# Altium footprint library PQFN-8-5x6.PcbLib: 1 footprints
Each footprint in its own frame and in the unit in brackets; x right, y up, seen from the top. Pads: shape width x height; smd on the part's side, far side on the other; paste and mask are expansions set on the pad; w line width, h text height; cw(c..) or ccw(c..) is an arc to the next point about the centre after c.
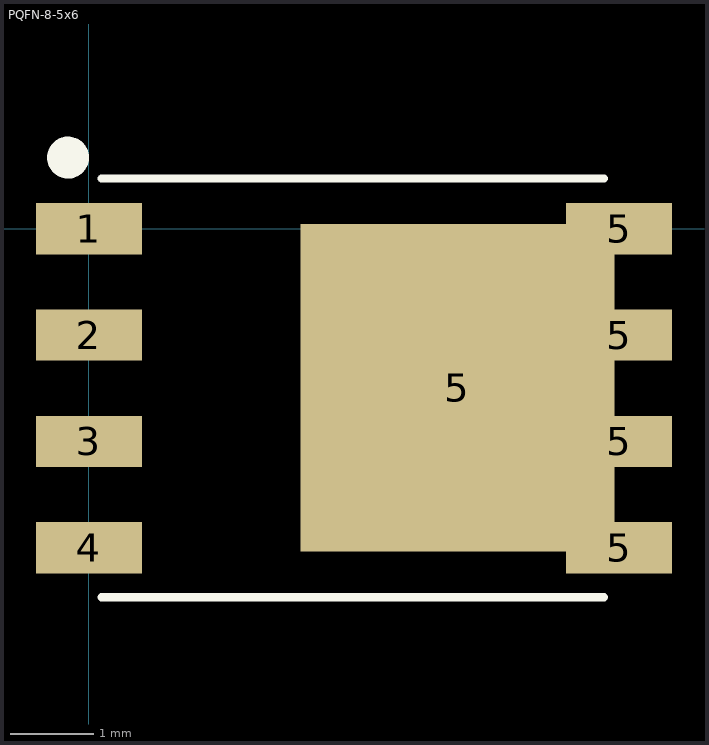
[diagram p0: the footprint, top view; thin cyan lines are the x and y axes]

## PQFN-8-5x6 [mm]
pads (9):
  rect 1.27x0.61 smd: 1(0,0) 2(0,-1.27) 3(0,-2.54) 4(0,-3.81) 5(6.33,-3.81) 5(6.33,-2.54) 5(6.33,-1.27) 5(6.33,0)
  rect 3.75x3.91 smd: 5(4.4,-1.9)
Top Overlay:
  circle w0.25: c-0.25,0.85 r0.125
  lines w0.1: 0.15,-4.4 6.15,-4.4 ; 0.15,0.6 6.15,0.6
3D body: height 1.1, standoff 0, extent 0.15,-4.4 6.15,0.6